# Altium schematic symbol library Inductors.SchLib: 3 symbols
Pins are listed as number, name and electrical type; pins without a type are passive.

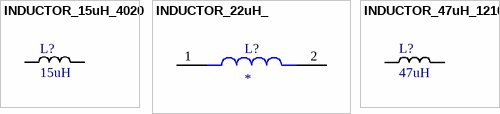
[diagram p0: symbols INDUCTOR_15uH_4020 to INDUCTOR_47uH_1210]

## INDUCTOR_15uH_4020
designator L?, comment value 15uH  (hidden comment: 15uH Shielded)
Inductor Shielded 15uH 1.5A +/-20%; Made By: Flip B; DC Resistance: 374mOhm; Tolerance: +/- 20%; ComponentLink1Description: Datasheet; ComponentLink1URL: https://www.bourns.com/docs/Product-Datasheets/SRP4020TA.pdf; Current Rating: 1.5A; Supplier 1: Digi-Key; Supplier Part Number 1: SRP4020TA-150MCT-ND
footprint INDUCTOR_VLC5020T (TDK VLC5020T-150MR90)
pins: 1, 2

## INDUCTOR_22uH_
designator L?
22µH Inductor 3A 135mOhm Max Nonstandard; Value: 22uH; MF: ECS Inc.; MP: ECS-MPIL0630-220MC; Digi-Key_Part_Number: XC2409CT-ND; SnapEDA_Link: https://www.snapeda.com/parts/ECS-MPIL0630-220MC/ECS%20Inc./view-part/3624015/?ref=snap; Check_prices: https://www.snapeda.com/parts/ECS-MPIL0630-220MC/ECS%20Inc./view-part/3624015/?ref=eda; Purchase-URL: https://pricing.snapeda.com/search/part/ECS-MPIL0630-220MC/?ref=eda; Package: Nonstandard ECS Inc.
footprint INDUCTOR_0630-220MC
pins: 1, 2

## INDUCTOR_47uH_1210
designator L?, comment value 47uH  (hidden comment: 47uH Unshielded)
Inductor Unshielded 47uH 390mA +/-20%; Made By: Flip B; DC Resistance: 670mOhm; Tolerance: +/- 20%; ComponentLink1Description: Datasheet; ComponentLink1URL: https://ds.yuden.co.jp/TYCOMPAS/ut/detail?pn=CBC3225T470MR%20%20&u=M; Current Rating: 390mA; Supplier 1: Digi-Key; Supplier Part Number 1: 587-1627-1-ND
footprint INDUCTOR_VLC5020T (TDK VLC5020T-150MR90)
pins: 1, 2